# Altium footprint library O_JonF_DaveL.PcbLib: 331 footprints (part 13 of 21)
Each footprint in its own frame and in the unit in brackets; x right, y up, seen from the top. Pads: shape width x height; smd on the part's side, far side on the other; paste and mask are expansions set on the pad; w line width, h text height; cw(c..) or ccw(c..) is an arc to the next point about the centre after c.
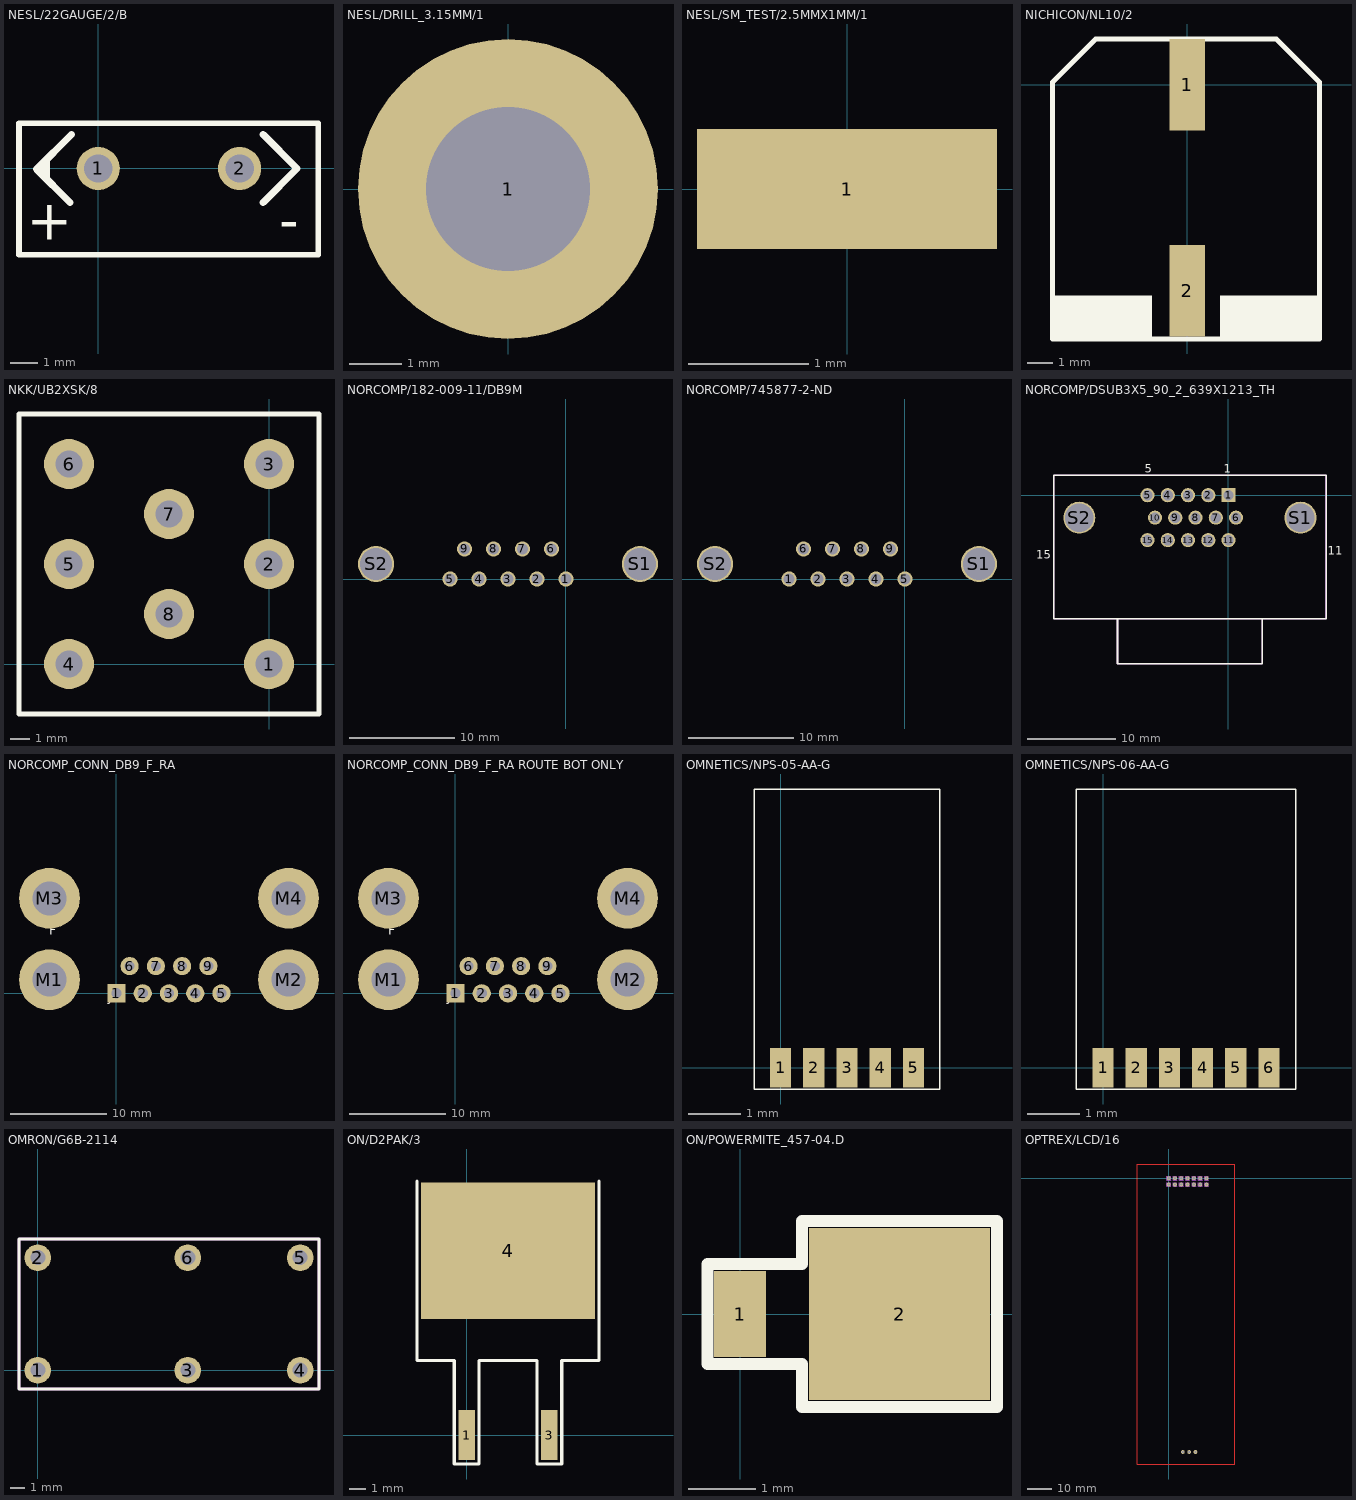
[diagram p12: the footprints below, top view; thin cyan lines are the x and y axes]

## NESL/22GAUGE/2/B [mil]
pads (2):
  round 61 hole 40: 1(0,0) 2(200,0)
Top Overlay:
  lines w8: -112,-122 -112,64 311,64 311,-122 -112,-122
  lines w10: -40,-48 -87,-1 -38,48 ; 233.33,-48 281.33,0 233.33,48 ; -83,-2 -73,-12 -73,11 -83,1 -83,-2
  text "+" at -101,-101 h56.25
  text "-" at 256,-101 h56.25

## NESL/DRILL_3.15MM/1 [mm]
pads (1):
  round 5.75 hole 3.15: 1(0,0)
Mechanical 1:
  text ".Comment" at 0,6 h1.5
  text ".Designator" at 0,9 h1.5
  text ".Pattern" at 0,0 h1.5

## NESL/SM_TEST/2.5MMX1MM/1 [mil]
pads (1):
  rect 98.43x39.37 smd: 1(0,0)
Top Overlay:
  text ".Designator" at -51,14.5 h56.25
Mechanical 1:
  text ".Pattern" at 0,0 h56.25
  text ".Comment" at 0,225 h56.25
  text ".Designator" at 0,337.5 h56.25

## NICHICON/NL10/2 [mm]
pads (2):
  rect 1.4x3.6 smd: 1(0,0) 2(0,-8.1)
Top Overlay:
  region: 5.2,-8.3 5.201,-8.3 5.201,-9.9 5.2,-9.9 5.2,-9.901 1.3,-9.901 1.3,-9.9 1.299,-9.9 1.299,-8.3 1.3,-8.3 1.3,-8.299 5.2,-8.299
  region: -1.4,-8.3 -1.399,-8.3 -1.399,-9.9 -1.4,-9.9 -1.4,-9.901 -5.3,-9.901 -5.3,-9.9 -5.301,-9.9 -5.301,-8.3 -5.3,-8.3 -5.3,-8.299 -1.4,-8.299
  lines w0.2: -5.3,-10 -5.3,0.1 -3.6,1.8 3.5,1.8 5.2,0.1 5.2,-10 -5.3,-10
  text ".Designator" at 0,9 h1.5
Mechanical 1:
  text ".Designator" at 0,9 h1.5
  text ".Comment" at 0,6 h1.5
  text ".Pattern" at 0,0 h1.5

## NKK/UB2XSK/8 [mil]
pads (8):
  round 100 hole 54: 1(0,0) 2(0,200) 3(0,400) 4(-400,0) 5(-400,200) 6(-400,400) 7(-200,300) 8(-200,100)
Top Overlay:
  lines w10: -500,-100 -500,500 100,500 100,-100 -500,-100
  text ".Designator" at -503,510.5 h56.25
Mechanical 1:
  text ".Designator" at -503,510.5 h56.25
  text ".Comment" at 0,225 h56.25
  text ".Pattern" at 0,0 h56.25

## NORCOMP/182-009-11/DB9M [mil]
pads (11):
  round 57 hole 40: 1(0,0) 2(-108,0) 3(-216,0) 4(-324,0) 5(-432,0) 6(-54,112) 7(-162,112) 8(-270,112) 9(-378,112)
  round 135 hole 120: S1(276,56) S2(-708,56)
Top Overlay:
  text ".Designator" at -825,-162.5 h56.25
Mechanical 1:
  text ".Designator" at -382,304.5 h56.25
  text ".Pattern" at -557,184 h56.25

## NORCOMP/745877-2-ND [mil]
pads (11):
  round 57 hole 40: 1(-432,0) 2(-324,0) 3(-216,0) 4(-108,0) 5(0,0) 6(-378,112) 7(-270,112) 8(-162,112) 9(-54,112)
  round 135 hole 120: S1(276,56) S2(-708,56)
Top Overlay:
  text ".Designator" at -825,-162.5 h56.25
Mechanical 1:
  text ".Pattern" at -557,184 h56.25
  text ".Designator" at -382,304.5 h56.25

## NORCOMP/DSUB3X5_90_2_639X1213_TH [mil]
pads (17):
  rect 63x63 / inner round 81 / far side rect 63x63 hole 46: 1(0.3,-0.55)
  round 63 / inner round 81 / far side round 63 hole 46: 2(-89.9,-0.9) 3(-180.1,-0.9) 4(-270.3,-0.9) 5(-360.5,-0.9) 6(33.6,-100.9) 7(-56.6,-100.9) 8(-146.8,-100.9) 9(-237,-100.9) 10(-327.2,-100.9) 11(0.3,-200.9) 12(-89.9,-200.9) 13(-180.1,-200.9) 14(-270.3,-200.9) 15(-360.5,-200.9)
  round 142.9 / inner round 160.9 / far side round 142.9 hole 125.9: S1(320.4,-100.9) S2(-664,-100.9)
Top Overlay:
  lines w8: -505.7,-550.8 164.9,-550.8 ; -778.3,-551.08 -778.3,88.18 434.88,88.18 434.88,-551.03 150.37,-551.03 150.37,-750.87 -494.03,-750.87 -494.03,-551.08 -778.3,-551.08
  text "5" at -371.8,99.1 h37.5
  text "1" at -21.8,99.1 h37.5
  text ".Designator" at -764.68,119.85 h37.5
  text "15" at -856.9,-284.7 h37.5
  text "11" at 441.1,-267 h37.5
Mechanical 1:
  lines w8: -493.8,-551.9 -493.8,-750.9 150.2,-750.9 150.2,-550.9 ; -778.3,-550.9 -778.3,88.1 434.7,88.1 434.7,-550.9 -778.3,-550.9
  text "1" at -21.8,24.1 h37.5
  text ".Designator" at -233.88,-134.73 h37.5
  text ".Comment" at -775.88,-818.12 h37.5
  text "5" at -371.8,24.1 h37.5
  text "15" at -464.5,-278.8 h37.5
  text "11" at 57.6,-255.2 h37.5

## NORCOMP_CONN_DB9_F_RA [mil]
pads (13):
  rect 75x75 / inner round 75 / far side rect 75x75 hole 42: 1(0,0)
  round 75 hole 42: 2(108,0) 3(216,0) 4(324,0) 5(432,0) 6(54,112) 7(162,112) 8(270,112) 9(378,112)
  round 250 hole 140: M1(-276,56) M2(708,56) M3(-276,391) M4(708,391)
Top Overlay:
  text ".Designator" at 150,-175 h37.5
  text "F" at -277,242 h37.5
  text "JW" at -34,-34 h37.5
Mechanical 1:
  text ".Designator" at -125,350 h37.5
  text ".Pattern" at -125,200 h37.5
  text ".Comment" at -125,300 h37.5
  text "F" at -277,242 h37.5

## NORCOMP_CONN_DB9_F_RA ROUTE BOT ONLY [mil]
pads (13):
  rect 75x75 / inner round 75 / far side rect 75x75 hole 42: 1(0,0)
  round 75 hole 42: 2(108,0) 3(216,0) 4(324,0) 5(432,0) 6(54,112) 7(162,112) 8(270,112) 9(378,112)
  round 250 hole 140: M1(-276,56) M2(708,56) M3(-276,391) M4(708,391)
Top Overlay:
  text "JW" at -34,-34 h37.5
  text "F" at -277,242 h37.5
  text ".Designator" at 150,-175 h37.5
Mechanical 1:
  text "F" at -277,242 h37.5
  text ".Comment" at -125,300 h37.5
  text ".Pattern" at -125,200 h37.5
  text ".Designator" at -125,350 h37.5

## OMNETICS/NPS-05-AA-G [mil]
pads (5):
  rect 16x30 smd: 1(0,0) 2(25,0) 3(50,0) 4(75,0) 5(100,0)
Top Overlay:
  lines w1: -20,-16 -20,210 120,210 120,-16 -20,-16
  text ".Designator" at 0,337.5 h56.25
Mechanical 1:
  text ".Designator" at 0,337.5 h56.25
  text ".Comment" at 0,225 h56.25
  text ".Pattern" at 0,0 h56.25

## OMNETICS/NPS-06-AA-G [mil]
pads (6):
  rect 16x30 smd: 1(0,0) 2(25,0) 3(50,0) 4(75,0) 5(100,0) 6(125,0)
Top Overlay:
  lines w1: -20,-16 145,-16 145,210 -20,210 -20,-16
  text ".Designator" at 0,337.5 h56.25
Mechanical 1:
  text ".Designator" at 0,337.5 h56.25
  text ".Comment" at 0,225 h56.25
  text ".Pattern" at 0,0 h56.25

## OMRON/G6B-2114 [mil]
pads (6):
  round 71 hole 40: 1(0,0) 2(0,300) 3(400,0) 4(700,0) 5(700,300) 6(400,300)
Top Overlay:
  lines w8: -50,-50 -50,350 750,350 750,-50 -50,-50
  text ".Designator" at -43.33,-122.25 h37.5
Mechanical 1:
  lines w8: -50,-50 -50,350 750,350 750,-50 -50,-50
  text ".Pattern" at 120.5,148.12 h37.5
  text ".Comment" at 271,86.75 h37.5
  text ".Designator" at -40.33,-123.25 h37.5

## ON/D2PAK/3 [mm] "D2PAK 3  CASE 418B-04  ISSUE J"
pads (3):
  rect 1.016x3.05 smd: 1(0,0) 3(5.08,0)
  rect 10.66x8.38 smd: 4(2.54,11.305)
Top Overlay:
  lines w0.203: -3.048,15.59 -3.048,4.572 -0.762,4.572 -0.762,-1.778 0.762,-1.778 0.762,4.572 4.318,4.572 4.318,-1.778 5.842,-1.778 5.842,4.572 8.128,4.572 8.128,15.59

## ON/POWERMITE_457-04.D [mil]
pads (2):
  rect 30x50 smd: 1(0,0)
  rect 105x100 smd: 2(92.5,0)
Top Overlay:
  lines w7: -19,-29 -19,29 -15,29 36,29 36,54 149,54 149,-54 36,-54 36,-29 -19,-29

## OPTREX/LCD/16 [mil]
pads (17):
  round 60 hole 37: 1(0,-100) 2(0,0) 3(100,-100) 4(100,0) 5(200,-100) 6(200,0) 7(300,-100) 8(300,0) 9(400,-100) 10(400,0) 11(500,-100) 12(500,0) 13(600,-100) 14(600,0) 15(425,-4335) 16(225,-4335) NC_17(325,-4335)
Top Layer:
  lines w5: -500,-4525 1050,-4525 1050,225 -500,225 -500,-4525
Top Overlay:
  text ".Designator" at 70,57.5 h37.5
Mechanical 1:
  drawing of 394 lines, arcs and shapes, not listed
  text ".Pattern" at 70,-92.5 h37.5
  text ".Comment" at 70,7.5 h37.5
  text ".Designator" at 70,57.5 h37.5
Mechanical 3:
  text "JW" at -32,-30 h37.5